# EAGLE library part 39-30-1060 (library JACartParts)
6 way r/a PCB header w/peg,Mini-Fit Jr Molex MINI-FIT JR. Series, Series Number 5569, 4.2mm Pitch 6 Way 2 Row Shrouded Right Angle PCB Header, Through Hole Source: Datasheet <https://www.molex.com/webdocs/datasheets/pdf/en-us/0039301060_PCB_HEADERS.pdf>
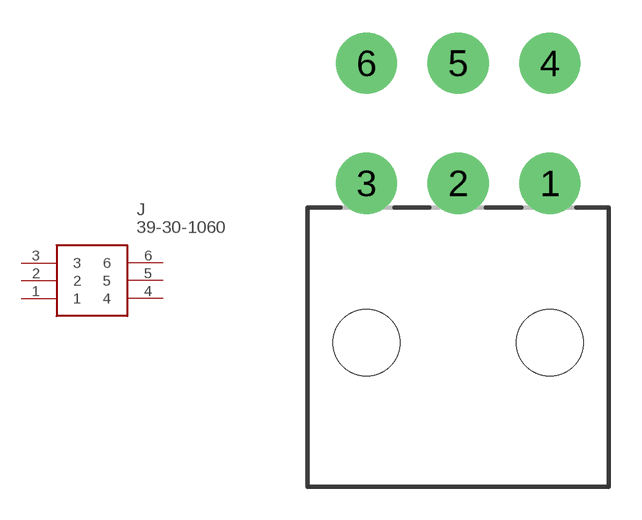
[diagram p2: symbol with the pads of 39-30-1060_1; footprint 39-30-1060_1]

Designator prefix J

## 39-30-1060 (DESCRIPTION: 6 way r/a PCB header w/peg,Mini-Fit Jr Molex MINI-FIT JR. Series, Series Number 5569, 4.2mm Pitch 6 Way 2 Row Shrouded Right Angle PCB Header, Through Hole; HEIGHT: mm; MANUFACTURER_NAME: Molex; MANUFACTURER_PART_NUMBER: 39-30-1060; MOUSER_PART_NUMBER: 538-39-30-1060; MOUSER_PRICE-STOCK: https://www.mouser.co.uk/ProductDetail/Molex/39-30-1060?qs=tRPrwvvr%2FujbUr18ehTIWQ%3D%3D)  [39-30-1060_1]
1  1
2  2
3  3
4  4
5  5
6  6

## Footprint 39-30-1060_1 (pad centres in mm)
39-30-1060
drill 1.85 pad 2.8: 1 4.2,7.3; 2 0,7.3; 3 -4.2,7.3; 4 4.2,12.8; 5 0,12.8; 6 -4.2,12.8
hole 3.05 at 4.2,0
hole 3.05 at -4.2,0